# EAGLE library part TPS2490 (library ScottsLib)
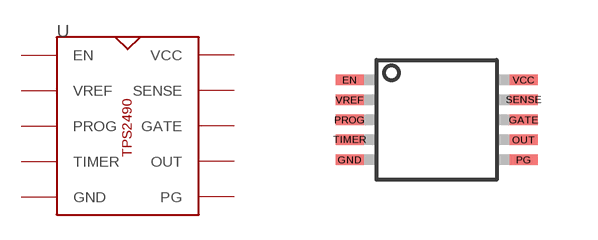
[diagram p2: symbol with the pads of DGS; footprint DGS]

Designator prefix -

## TPS2490  [DGS]
EN  EN  in
GATE  GATE  out
GND  GND  pas
OUT  OUT  in
PG  PG  out
PROG  PROG  in
SENSE  SENSE  in
TIMER  TIMER
VCC  VCC  in
VREF  VREF  out

## Footprint DGS (pad centres in mm)
smd 0.7 x 0.27: EN -2.175,1; GATE 2.175,0; GND -2.175,-1; OUT 2.175,-0.5; PG 2.175,-1; PROG -2.175,0; SENSE 2.175,0.5; TIMER -2.175,-0.5; VCC 2.175,1; VREF -2.175,0.5